# Altium integrated library TI Power Management Switching Regulator Charge Pump (Inductorless).IntLib: 239 symbols (part 12 of 14)
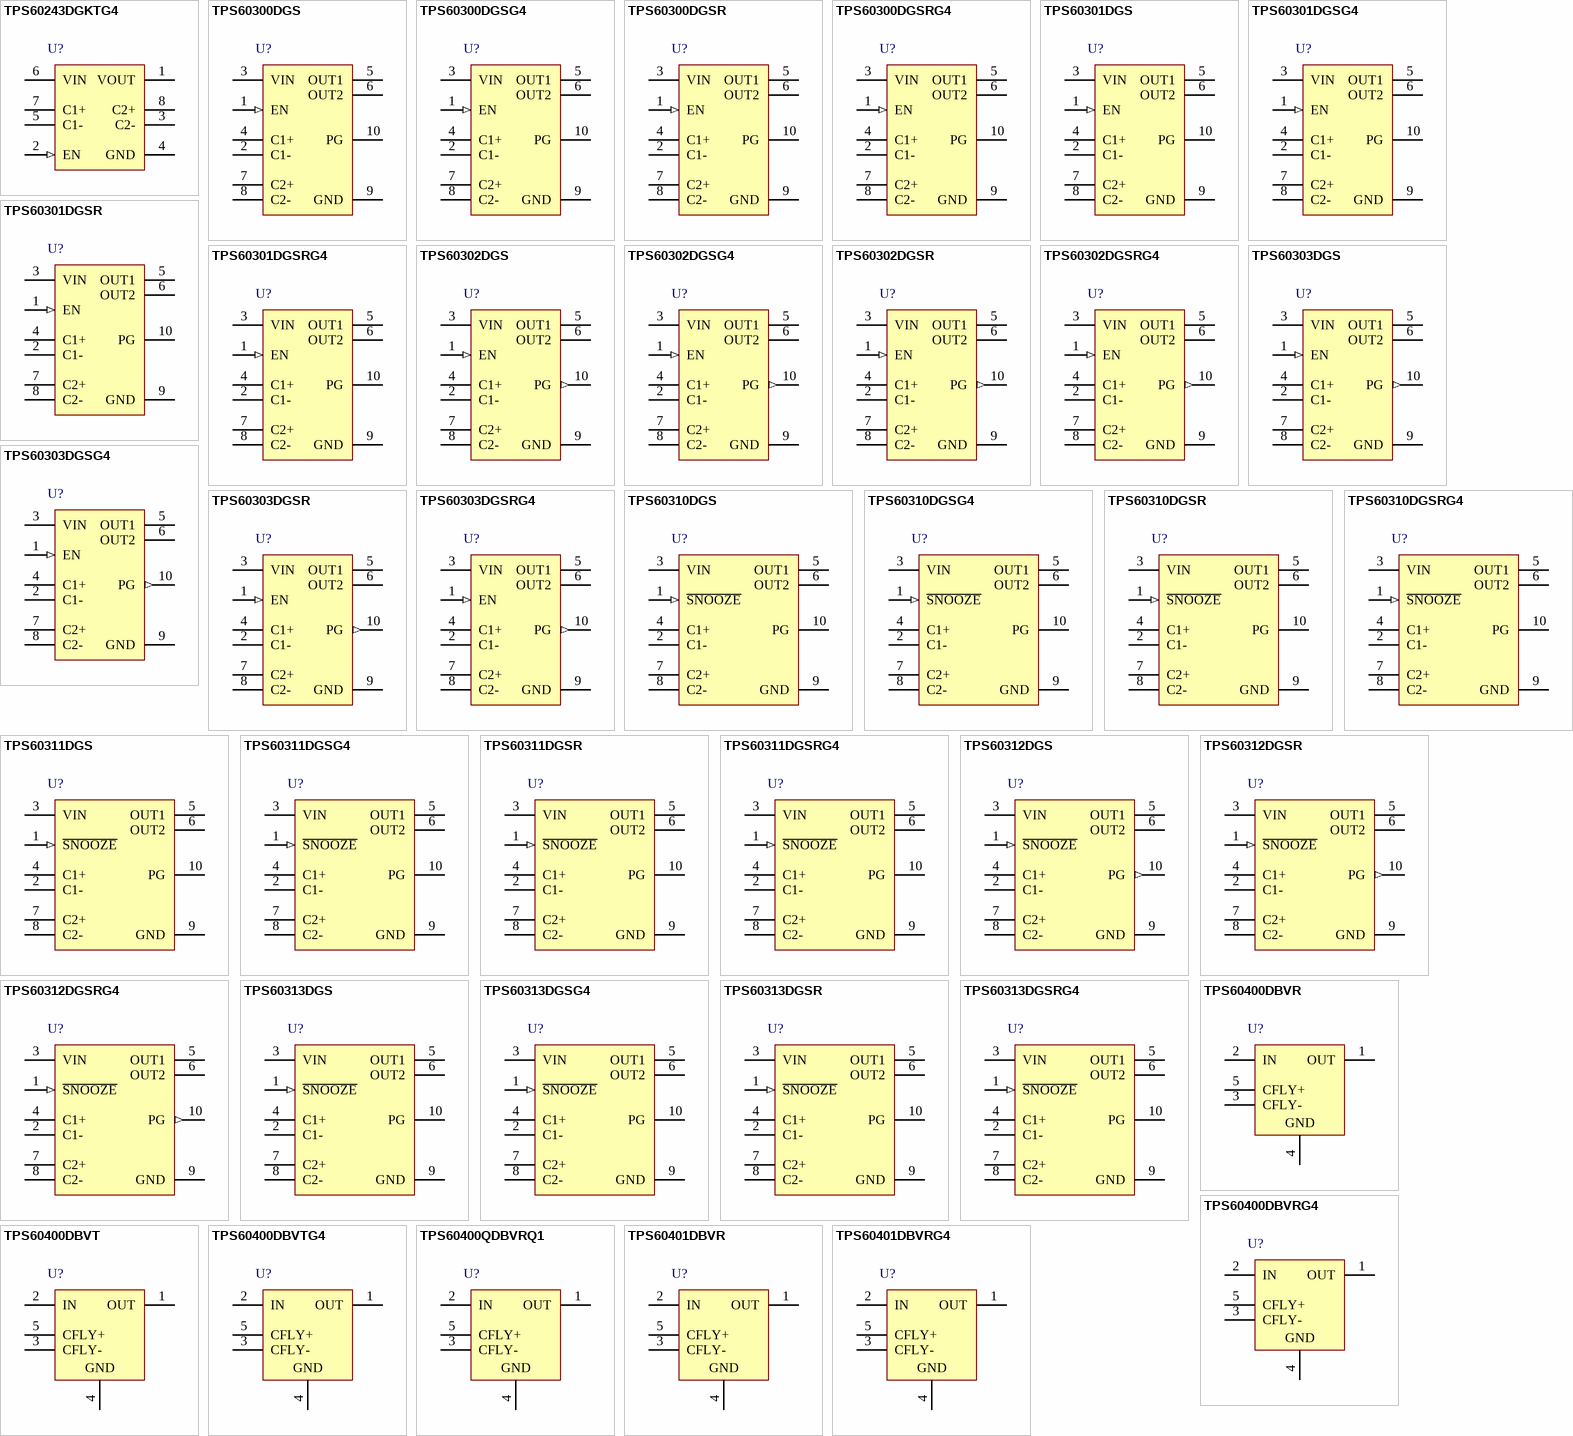
[diagram p18: symbols TPS60243DGKTG4 to TPS60401DBVRG4]

## TPS60311DGSG4
designator U?
3 V, Boost Charge Pump, 20 mA, 0.9 to 1.8 V Input, -40 to 125 degC, 10-pin SOP (DGS10), Green (RoHS & no Sb/Br); Manufacturer: Texas Instruments; PartNumber: TPS60311DGSG4; Efficiency(Typ)(%): 85; Iout(Max)(A): 0.02; Iq(Typ)(mA): 0.035; Preset Vout(V): 3; Switching Frequency(Max)(kHz): 900; Vin(Max)(V): 1.8; Vin(Min)(V): 0.9; Vout(Max)(V): 3.12; Vout(Min)(V): 2.88; DatasheetVersion: SLVS362A; PackageVersion: 4073225-6/I; PackageReference: DGS10; PackageDescription: 10-Pin Plastic Small Outline, Body 3.00 x 3.00 mm, Pitch 0.50 mm; Supplier 1: Digi-Key; Supplier Part Number 1: TPS60311DGSG4-ND; Supplier 2: Mouser; Supplier Part Number 2: 595-TPS60311DGSG4; Eco-Plan: Green (RoHS & no Sb/Br); Topology: Boost; Mounting Technology: Surface Mount; Code_JEDEC: MO-153; ComponentLink1Description: Manufacturer URL; ComponentLink1URL: http://www.ti.com/; ComponentLink2Description: Datasheet; ComponentLink2URL: http://www.ti.com/general/docs/lit/getliterature.tsp?genericPartNumber=TPS60311&fileType=pdf; ComponentLink3Description: Package Specification; ComponentLink3URL: http://www.ti.com/litv/pdf/mpds373
footprint TI-DGS10_N (SOP, 10-Leads, Body 3x3mm, Pitch 0.5mm, IPC Medium Density)
footprint TI-DGS10_L (SOP, 10-Leads, Body 3x3mm, Pitch 0.5mm, IPC High Density)
footprint TI-DGS10_M (SOP, 10-Leads, Body 3x3mm, Pitch 0.5mm, IPC Low Density)
pins: 1 ~{SNOOZE} (in) "Snooze mode enable input - S\N\O\O\Z\E\ = Low enables the snooze mode at low output current. - S\N\O\O\Z\E\ = High disables the snooze mode.", 2 C1- "Negative terminal of the flying capacitor C1F", 3 VIN (power) "Supply input. Bypass VIN to GND with a = 1-µF capacitor", 4 C1+ "Positive terminal of the flying capacitor C1F", 5 OUT1 (power) "2 x VIN power output. Bypass OUT1 to GND with the output filter capacitor C(OUT1)", 6 OUT2 (power) "Regulated 3.3-V power output (TPS60310, TPS60312) or 3-V power output (TPS60311, TPS60313), respectively Bypass OUT2 to GND with the output filter capacitor C(OUT2)", 7 C2+ "Positive terminal of the flying capacitor C2F", 8 C2- "Negative terminal of the flying capacitor C2F", 9 GND (power) "GROUND", 10 PG (oc) "Power good detector output. As soon as the voltage on OUT2 reaches about 98% of its nominal value this pin goes high. Open drain output on TPS60310 and TPS60311. A pullup resistor should be connected between PG and OUT1 or (See Datasheet)"

## TPS60311DGSR
designator U?
3 V, Boost Charge Pump, 20 mA, 0.9 to 1.8 V Input, -40 to 125 degC, 10-pin SOP (DGS10), Green (RoHS & no Sb/Br); Manufacturer: Texas Instruments; PartNumber: TPS60311DGSR; Efficiency(Typ)(%): 85; Iout(Max)(A): 0.02; Iq(Typ)(mA): 0.035; Preset Vout(V): 3; Switching Frequency(Max)(kHz): 900; Vin(Max)(V): 1.8; Vin(Min)(V): 0.9; Vout(Max)(V): 3.12; Vout(Min)(V): 2.88; DatasheetVersion: SLVS362A; PackageVersion: 4073225-6/I; PackageReference: DGS10; PackageDescription: 10-Pin Plastic Small Outline, Body 3.00 x 3.00 mm, Pitch 0.50 mm; Supplier 1: Digi-Key; Supplier Part Number 1: 296-13415-2-ND; Supplier 2: Digi-Key; Supplier Part Number 2: 296-13415-1-ND; Supplier 3: Mouser; Supplier Part Number 3: 595-TPS60311DGSR; Eco-Plan: Green (RoHS & no Sb/Br); Topology: Boost; Mounting Technology: Surface Mount; Code_JEDEC: MO-153; ComponentLink1Description: Manufacturer URL; ComponentLink1URL: http://www.ti.com/; ComponentLink2Description: Datasheet; ComponentLink2URL: http://www.ti.com/general/docs/lit/getliterature.tsp?genericPartNumber=TPS60311&fileType=pdf; ComponentLink3Description: Package Specification; ComponentLink3URL: http://www.ti.com/litv/pdf/mpds373
footprint TI-DGS10_N (SOP, 10-Leads, Body 3x3mm, Pitch 0.5mm, IPC Medium Density)
footprint TI-DGS10_L (SOP, 10-Leads, Body 3x3mm, Pitch 0.5mm, IPC High Density)
footprint TI-DGS10_M (SOP, 10-Leads, Body 3x3mm, Pitch 0.5mm, IPC Low Density)
pins: 1 ~{SNOOZE} (in) "Snooze mode enable input - S\N\O\O\Z\E\ = Low enables the snooze mode at low output current. - S\N\O\O\Z\E\ = High disables the snooze mode.", 2 C1- "Negative terminal of the flying capacitor C1F", 3 VIN (power) "Supply input. Bypass VIN to GND with a = 1-µF capacitor", 4 C1+ "Positive terminal of the flying capacitor C1F", 5 OUT1 (power) "2 x VIN power output. Bypass OUT1 to GND with the output filter capacitor C(OUT1)", 6 OUT2 (power) "Regulated 3.3-V power output (TPS60310, TPS60312) or 3-V power output (TPS60311, TPS60313), respectively Bypass OUT2 to GND with the output filter capacitor C(OUT2)", 7 C2+ "Positive terminal of the flying capacitor C2F", 8 C2- "Negative terminal of the flying capacitor C2F", 9 GND (power) "GROUND", 10 PG (oc) "Power good detector output. As soon as the voltage on OUT2 reaches about 98% of its nominal value this pin goes high. Open drain output on TPS60310 and TPS60311. A pullup resistor should be connected between PG and OUT1 or (See Datasheet)"

## TPS60311DGSRG4
designator U?
3 V, Boost Charge Pump, 20 mA, 0.9 to 1.8 V Input, -40 to 125 degC, 10-pin SOP (DGS10), Green (RoHS & no Sb/Br); Manufacturer: Texas Instruments; PartNumber: TPS60311DGSRG4; Efficiency(Typ)(%): 85; Iout(Max)(A): 0.02; Iq(Typ)(mA): 0.035; Preset Vout(V): 3; Switching Frequency(Max)(kHz): 900; Vin(Max)(V): 1.8; Vin(Min)(V): 0.9; Vout(Max)(V): 3.12; Vout(Min)(V): 2.88; DatasheetVersion: SLVS362A; PackageVersion: 4073225-6/I; PackageReference: DGS10; PackageDescription: 10-Pin Plastic Small Outline, Body 3.00 x 3.00 mm, Pitch 0.50 mm; Supplier 1: Digi-Key; Supplier Part Number 1: TPS60311DGSRG4-ND; Supplier 2: Mouser; Supplier Part Number 2: 595-TPS60311DGSRG4; Eco-Plan: Green (RoHS & no Sb/Br); Topology: Boost; Mounting Technology: Surface Mount; Code_JEDEC: MO-153; ComponentLink1Description: Manufacturer URL; ComponentLink1URL: http://www.ti.com/; ComponentLink2Description: Datasheet; ComponentLink2URL: http://www.ti.com/general/docs/lit/getliterature.tsp?genericPartNumber=TPS60311&fileType=pdf; ComponentLink3Description: Package Specification; ComponentLink3URL: http://www.ti.com/litv/pdf/mpds373
footprint TI-DGS10_N (SOP, 10-Leads, Body 3x3mm, Pitch 0.5mm, IPC Medium Density)
footprint TI-DGS10_L (SOP, 10-Leads, Body 3x3mm, Pitch 0.5mm, IPC High Density)
footprint TI-DGS10_M (SOP, 10-Leads, Body 3x3mm, Pitch 0.5mm, IPC Low Density)
pins: 1 ~{SNOOZE} (in) "Snooze mode enable input - S\N\O\O\Z\E\ = Low enables the snooze mode at low output current. - S\N\O\O\Z\E\ = High disables the snooze mode.", 2 C1- "Negative terminal of the flying capacitor C1F", 3 VIN (power) "Supply input. Bypass VIN to GND with a = 1-µF capacitor", 4 C1+ "Positive terminal of the flying capacitor C1F", 5 OUT1 (power) "2 x VIN power output. Bypass OUT1 to GND with the output filter capacitor C(OUT1)", 6 OUT2 (power) "Regulated 3.3-V power output (TPS60310, TPS60312) or 3-V power output (TPS60311, TPS60313), respectively Bypass OUT2 to GND with the output filter capacitor C(OUT2)", 7 C2+ "Positive terminal of the flying capacitor C2F", 8 C2- "Negative terminal of the flying capacitor C2F", 9 GND (power) "GROUND", 10 PG (oc) "Power good detector output. As soon as the voltage on OUT2 reaches about 98% of its nominal value this pin goes high. Open drain output on TPS60310 and TPS60311. A pullup resistor should be connected between PG and OUT1 or (See Datasheet)"

## TPS60312DGS
designator U?
3.3 V, Boost Charge Pump, 20 mA, 0.9 to 1.8 V Input, -40 to 125 degC, 10-pin SOP (DGS10), Green (RoHS & no Sb/Br); Manufacturer: Texas Instruments; PartNumber: TPS60312DGS; Efficiency(Typ)(%): 85; Iout(Max)(A): 0.02; Iq(Typ)(mA): 0.035; Preset Vout(V): 3.3; Switching Frequency(Max)(kHz): 900; Vin(Max)(V): 1.8; Vin(Min)(V): 0.9; Vout(Max)(V): 3.43; Vout(Min)(V): 3.17; DatasheetVersion: SLVS362A; PackageVersion: 4073225-6/I; PackageReference: DGS10; PackageDescription: 10-Pin Plastic Small Outline, Body 3.00 x 3.00 mm, Pitch 0.50 mm; Supplier 1: Digi-Key; Supplier Part Number 1: TPS60312DGS-ND; Supplier 2: Mouser; Supplier Part Number 2: 595-TPS60312DGS; Eco-Plan: Green (RoHS & no Sb/Br); Topology: Boost; Mounting Technology: Surface Mount; Code_JEDEC: MO-153; ComponentLink1Description: Manufacturer URL; ComponentLink1URL: http://www.ti.com/; ComponentLink2Description: Datasheet; ComponentLink2URL: http://www.ti.com/general/docs/lit/getliterature.tsp?genericPartNumber=TPS60312&fileType=pdf; ComponentLink3Description: Package Specification; ComponentLink3URL: http://www.ti.com/litv/pdf/mpds373
footprint TI-DGS10_N (SOP, 10-Leads, Body 3x3mm, Pitch 0.5mm, IPC Medium Density)
footprint TI-DGS10_L (SOP, 10-Leads, Body 3x3mm, Pitch 0.5mm, IPC High Density)
footprint TI-DGS10_M (SOP, 10-Leads, Body 3x3mm, Pitch 0.5mm, IPC Low Density)
pins: 1 ~{SNOOZE} (in) "Snooze mode enable input - SNOOZE = Low enables the snooze mode at low output current. - SNOOZE = High disables the snooze mode.", 2 C1- "Negative terminal of the flying capacitor C1F", 3 VIN (power) "Supply input. Bypass VIN to GND with a >= 1-µF capacitor.", 4 C1+ "Positive terminal of the flying capacitor C1F", 5 OUT1 (power) "2 x VIN power output. Bypass OUT1 to GND with the output filter capacitor C(OUT1)", 6 OUT2 (power) "Regulated 3.3-V power output (TPS60310, TPS60312) or 3-V power output (TPS60311, TPS60313), respectively Bypass OUT2 to GND with the output filter capacitor C(OUT2)", 7 C2+ "Positive terminal of the flying capacitor C2F", 8 C2- "Negative terminal of the flying capacitor C2F", 9 GND (power) "GROUND", 10 PG (out) "Power good detector output. As soon as the voltage on OUT2 reaches about 98% of its nominal value this pin goes high. Open drain output on TPS60310 and TPS60311. A pullup resistor should be connected between PG and OUT1 or (See Datasheet)"

## TPS60312DGSR
designator U?
3.3 V, Boost Charge Pump, 20 mA, 0.9 to 1.8 V Input, -40 to 125 degC, 10-pin SOP (DGS10), Green (RoHS & no Sb/Br); Manufacturer: Texas Instruments; PartNumber: TPS60312DGSR; Efficiency(Typ)(%): 85; Iout(Max)(A): 0.02; Iq(Typ)(mA): 0.035; Preset Vout(V): 3.3; Switching Frequency(Max)(kHz): 900; Vin(Max)(V): 1.8; Vin(Min)(V): 0.9; Vout(Max)(V): 3.43; Vout(Min)(V): 3.17; DatasheetVersion: SLVS362A; PackageVersion: 4073225-6/I; PackageReference: DGS10; PackageDescription: 10-Pin Plastic Small Outline, Body 3.00 x 3.00 mm, Pitch 0.50 mm; Supplier 1: Digi-Key; Supplier Part Number 1: 296-13416-2-ND; Supplier 2: Digi-Key; Supplier Part Number 2: 296-13416-1-ND; Supplier 3: Digi-Key; Supplier Part Number 3: 296-13416-6-ND; Supplier 4: Mouser; Supplier Part Number 4: 595-TPS60312DGSR; Eco-Plan: Green (RoHS & no Sb/Br); Topology: Boost; Mounting Technology: Surface Mount; Code_JEDEC: MO-153; ComponentLink1Description: Manufacturer URL; ComponentLink1URL: http://www.ti.com/; ComponentLink2Description: Datasheet; ComponentLink2URL: http://www.ti.com/general/docs/lit/getliterature.tsp?genericPartNumber=TPS60312&fileType=pdf; ComponentLink3Description: Package Specification; ComponentLink3URL: http://www.ti.com/litv/pdf/mpds373
footprint TI-DGS10_N (SOP, 10-Leads, Body 3x3mm, Pitch 0.5mm, IPC Medium Density)
footprint TI-DGS10_L (SOP, 10-Leads, Body 3x3mm, Pitch 0.5mm, IPC High Density)
footprint TI-DGS10_M (SOP, 10-Leads, Body 3x3mm, Pitch 0.5mm, IPC Low Density)
pins: 1 ~{SNOOZE} (in) "Snooze mode enable input - SNOOZE = Low enables the snooze mode at low output current. - SNOOZE = High disables the snooze mode.", 2 C1- "Negative terminal of the flying capacitor C1F", 3 VIN (power) "Supply input. Bypass VIN to GND with a >= 1-µF capacitor.", 4 C1+ "Positive terminal of the flying capacitor C1F", 5 OUT1 (power) "2 x VIN power output. Bypass OUT1 to GND with the output filter capacitor C(OUT1)", 6 OUT2 (power) "Regulated 3.3-V power output (TPS60310, TPS60312) or 3-V power output (TPS60311, TPS60313), respectively Bypass OUT2 to GND with the output filter capacitor C(OUT2)", 7 C2+ "Positive terminal of the flying capacitor C2F", 8 C2- "Negative terminal of the flying capacitor C2F", 9 GND (power) "GROUND", 10 PG (out) "Power good detector output. As soon as the voltage on OUT2 reaches about 98% of its nominal value this pin goes high. Open drain output on TPS60310 and TPS60311. A pullup resistor should be connected between PG and OUT1 or (See Datasheet)"

## TPS60312DGSRG4
designator U?
3.3 V, Boost Charge Pump, 20 mA, 0.9 to 1.8 V Input, -40 to 125 degC, 10-pin SOP (DGS10), Green (RoHS & no Sb/Br); Manufacturer: Texas Instruments; PartNumber: TPS60312DGSRG4; Efficiency(Typ)(%): 85; Iout(Max)(A): 0.02; Iq(Typ)(mA): 0.035; Preset Vout(V): 3.3; Switching Frequency(Max)(kHz): 900; Vin(Max)(V): 1.8; Vin(Min)(V): 0.9; Vout(Max)(V): 3.43; Vout(Min)(V): 3.17; DatasheetVersion: SLVS362A; PackageVersion: 4073225-6/I; PackageReference: DGS10; PackageDescription: 10-Pin Plastic Small Outline, Body 3.00 x 3.00 mm, Pitch 0.50 mm; Supplier 1: Digi-Key; Supplier Part Number 1: TPS60312DGSRG4-ND; Supplier 2: Newark; Supplier Part Number 2: 54K1705; Supplier 3: Mouser; Supplier Part Number 3: 595-TPS60312DGSRG4; Eco-Plan: Green (RoHS & no Sb/Br); Topology: Boost; Mounting Technology: Surface Mount; Code_JEDEC: MO-153; ComponentLink1Description: Manufacturer URL; ComponentLink1URL: http://www.ti.com/; ComponentLink2Description: Datasheet; ComponentLink2URL: http://www.ti.com/general/docs/lit/getliterature.tsp?genericPartNumber=TPS60312&fileType=pdf; ComponentLink3Description: Package Specification; ComponentLink3URL: http://www.ti.com/litv/pdf/mpds373
footprint TI-DGS10_N (SOP, 10-Leads, Body 3x3mm, Pitch 0.5mm, IPC Medium Density)
footprint TI-DGS10_L (SOP, 10-Leads, Body 3x3mm, Pitch 0.5mm, IPC High Density)
footprint TI-DGS10_M (SOP, 10-Leads, Body 3x3mm, Pitch 0.5mm, IPC Low Density)
pins: 1 ~{SNOOZE} (in) "Snooze mode enable input - SNOOZE = Low enables the snooze mode at low output current. - SNOOZE = High disables the snooze mode.", 2 C1- "Negative terminal of the flying capacitor C1F", 3 VIN (power) "Supply input. Bypass VIN to GND with a >= 1-µF capacitor.", 4 C1+ "Positive terminal of the flying capacitor C1F", 5 OUT1 (power) "2 x VIN power output. Bypass OUT1 to GND with the output filter capacitor C(OUT1)", 6 OUT2 (power) "Regulated 3.3-V power output (TPS60310, TPS60312) or 3-V power output (TPS60311, TPS60313), respectively Bypass OUT2 to GND with the output filter capacitor C(OUT2)", 7 C2+ "Positive terminal of the flying capacitor C2F", 8 C2- "Negative terminal of the flying capacitor C2F", 9 GND (power) "GROUND", 10 PG (out) "Power good detector output. As soon as the voltage on OUT2 reaches about 98% of its nominal value this pin goes high. Open drain output on TPS60310 and TPS60311. A pullup resistor should be connected between PG and OUT1 or (See Datasheet)"

## TPS60313DGS
designator U?
3 V, Boost Charge Pump, 20 mA, 0.9 to 1.8 V Input, -40 to 125 degC, 10-pin SOP (DGS10), Green (RoHS & no Sb/Br); Manufacturer: Texas Instruments; PartNumber: TPS60313DGS; Efficiency(Typ)(%): 85; Iout(Max)(A): 0.02; Iq(Typ)(mA): 0.035; Preset Vout(V): 3; Switching Frequency(Max)(kHz): 900; Vin(Max)(V): 1.8; Vin(Min)(V): 0.9; Vout(Max)(V): 3.12; Vout(Min)(V): 2.88; DatasheetVersion: SLVS362A; PackageVersion: 4073225-6/I; PackageReference: DGS10; PackageDescription: 10-Pin Plastic Small Outline, Body 3.00 x 3.00 mm, Pitch 0.50 mm; Supplier 1: Digi-Key; Supplier Part Number 1: 296-34626-5-ND; Supplier 2: Newark; Supplier Part Number 2: 77C0623; Supplier 3: Mouser; Supplier Part Number 3: 595-TPS60313DGS; Eco-Plan: Green (RoHS & no Sb/Br); Topology: Boost; Mounting Technology: Surface Mount; Code_JEDEC: MO-153; ComponentLink1Description: Manufacturer URL; ComponentLink1URL: http://www.ti.com/; ComponentLink2Description: Datasheet; ComponentLink2URL: http://www.ti.com/general/docs/lit/getliterature.tsp?genericPartNumber=TPS60313&fileType=pdf; ComponentLink3Description: Package Specification; ComponentLink3URL: http://www.ti.com/litv/pdf/mpds373
footprint TI-DGS10_N (SOP, 10-Leads, Body 3x3mm, Pitch 0.5mm, IPC Medium Density)
footprint TI-DGS10_L (SOP, 10-Leads, Body 3x3mm, Pitch 0.5mm, IPC High Density)
footprint TI-DGS10_M (SOP, 10-Leads, Body 3x3mm, Pitch 0.5mm, IPC Low Density)
pins: 1 ~{SNOOZE} (in) "Snooze mode enable input - S\N\O\O\Z\E\ = Low enables the snooze mode at low output current. - S\N\O\O\Z\E\ = High disables the snooze mode.", 2 C1- "Negative terminal of the flying capacitor C1F", 3 VIN (power) "Supply input. Bypass VIN to GND with a = 1-µF capacitor", 4 C1+ "Positive terminal of the flying capacitor C1F", 5 OUT1 (power) "2 x VIN power output. Bypass OUT1 to GND with the output filter capacitor C(OUT1)", 6 OUT2 (power) "Regulated 3.3-V power output (TPS60310, TPS60312) or 3-V power output (TPS60311, TPS60313), respectively Bypass OUT2 to GND with the output filter capacitor C(OUT2)", 7 C2+ "Positive terminal of the flying capacitor C2F", 8 C2- "Negative terminal of the flying capacitor C2F", 9 GND (power) "GROUND", 10 PG (oc) "Power good detector output. As soon as the voltage on OUT2 reaches about 98% of its nominal value this pin goes high. Open drain output on TPS60310 and TPS60311. A pullup resistor should be connected between PG and OUT1 or (See Datasheet)"

## TPS60313DGSG4
designator U?
3 V, Boost Charge Pump, 20 mA, 0.9 to 1.8 V Input, -40 to 125 degC, 10-pin SOP (DGS10), Green (RoHS & no Sb/Br); Manufacturer: Texas Instruments; PartNumber: TPS60313DGSG4; Efficiency(Typ)(%): 85; Iout(Max)(A): 0.02; Iq(Typ)(mA): 0.035; Preset Vout(V): 3; Switching Frequency(Max)(kHz): 900; Vin(Max)(V): 1.8; Vin(Min)(V): 0.9; Vout(Max)(V): 3.12; Vout(Min)(V): 2.88; DatasheetVersion: SLVS362A; PackageVersion: 4073225-6/I; PackageReference: DGS10; PackageDescription: 10-Pin Plastic Small Outline, Body 3.00 x 3.00 mm, Pitch 0.50 mm; Supplier 1: Digi-Key; Supplier Part Number 1: TPS60313DGSG4-ND; Supplier 2: Newark; Supplier Part Number 2: 65M6334; Supplier 3: Mouser; Supplier Part Number 3: 595-TPS60313DGSG4; Eco-Plan: Green (RoHS & no Sb/Br); Topology: Boost; Mounting Technology: Surface Mount; Code_JEDEC: MO-153; ComponentLink1Description: Manufacturer URL; ComponentLink1URL: http://www.ti.com/; ComponentLink2Description: Datasheet; ComponentLink2URL: http://www.ti.com/general/docs/lit/getliterature.tsp?genericPartNumber=TPS60313&fileType=pdf; ComponentLink3Description: Package Specification; ComponentLink3URL: http://www.ti.com/litv/pdf/mpds373
footprint TI-DGS10_N (SOP, 10-Leads, Body 3x3mm, Pitch 0.5mm, IPC Medium Density)
footprint TI-DGS10_L (SOP, 10-Leads, Body 3x3mm, Pitch 0.5mm, IPC High Density)
footprint TI-DGS10_M (SOP, 10-Leads, Body 3x3mm, Pitch 0.5mm, IPC Low Density)
pins: 1 ~{SNOOZE} (in) "Snooze mode enable input - S\N\O\O\Z\E\ = Low enables the snooze mode at low output current. - S\N\O\O\Z\E\ = High disables the snooze mode.", 2 C1- "Negative terminal of the flying capacitor C1F", 3 VIN (power) "Supply input. Bypass VIN to GND with a = 1-µF capacitor", 4 C1+ "Positive terminal of the flying capacitor C1F", 5 OUT1 (power) "2 x VIN power output. Bypass OUT1 to GND with the output filter capacitor C(OUT1)", 6 OUT2 (power) "Regulated 3.3-V power output (TPS60310, TPS60312) or 3-V power output (TPS60311, TPS60313), respectively Bypass OUT2 to GND with the output filter capacitor C(OUT2)", 7 C2+ "Positive terminal of the flying capacitor C2F", 8 C2- "Negative terminal of the flying capacitor C2F", 9 GND (power) "GROUND", 10 PG (oc) "Power good detector output. As soon as the voltage on OUT2 reaches about 98% of its nominal value this pin goes high. Open drain output on TPS60310 and TPS60311. A pullup resistor should be connected between PG and OUT1 or (See Datasheet)"

## TPS60313DGSR
designator U?
3 V, Boost Charge Pump, 20 mA, 0.9 to 1.8 V Input, -40 to 125 degC, 10-pin SOP (DGS10), Green (RoHS & no Sb/Br); Manufacturer: Texas Instruments; PartNumber: TPS60313DGSR; Efficiency(Typ)(%): 85; Iout(Max)(A): 0.02; Iq(Typ)(mA): 0.035; Preset Vout(V): 3; Switching Frequency(Max)(kHz): 900; Vin(Max)(V): 1.8; Vin(Min)(V): 0.9; Vout(Max)(V): 3.12; Vout(Min)(V): 2.88; DatasheetVersion: SLVS362A; PackageVersion: 4073225-6/I; PackageReference: DGS10; PackageDescription: 10-Pin Plastic Small Outline, Body 3.00 x 3.00 mm, Pitch 0.50 mm; Supplier 1: Digi-Key; Supplier Part Number 1: 296-13417-2-ND; Supplier 2: Digi-Key; Supplier Part Number 2: 296-13417-1-ND; Supplier 3: Digi-Key; Supplier Part Number 3: 296-13417-6-ND; Supplier 4: Newark; Supplier Part Number 4: 77C0624; Supplier 5: Mouser; Supplier Part Number 5: 595-TPS60313DGSR; Eco-Plan: Green (RoHS & no Sb/Br); Topology: Boost; Mounting Technology: Surface Mount; Code_JEDEC: MO-153; ComponentLink1Description: Manufacturer URL; ComponentLink1URL: http://www.ti.com/; ComponentLink2Description: Datasheet; ComponentLink2URL: http://www.ti.com/general/docs/lit/getliterature.tsp?genericPartNumber=TPS60313&fileType=pdf; ComponentLink3Description: Package Specification; ComponentLink3URL: http://www.ti.com/litv/pdf/mpds373
footprint TI-DGS10_N (SOP, 10-Leads, Body 3x3mm, Pitch 0.5mm, IPC Medium Density)
footprint TI-DGS10_L (SOP, 10-Leads, Body 3x3mm, Pitch 0.5mm, IPC High Density)
footprint TI-DGS10_M (SOP, 10-Leads, Body 3x3mm, Pitch 0.5mm, IPC Low Density)
pins: 1 ~{SNOOZE} (in) "Snooze mode enable input - S\N\O\O\Z\E\ = Low enables the snooze mode at low output current. - S\N\O\O\Z\E\ = High disables the snooze mode.", 2 C1- "Negative terminal of the flying capacitor C1F", 3 VIN (power) "Supply input. Bypass VIN to GND with a = 1-µF capacitor", 4 C1+ "Positive terminal of the flying capacitor C1F", 5 OUT1 (power) "2 x VIN power output. Bypass OUT1 to GND with the output filter capacitor C(OUT1)", 6 OUT2 (power) "Regulated 3.3-V power output (TPS60310, TPS60312) or 3-V power output (TPS60311, TPS60313), respectively Bypass OUT2 to GND with the output filter capacitor C(OUT2)", 7 C2+ "Positive terminal of the flying capacitor C2F", 8 C2- "Negative terminal of the flying capacitor C2F", 9 GND (power) "GROUND", 10 PG (oc) "Power good detector output. As soon as the voltage on OUT2 reaches about 98% of its nominal value this pin goes high. Open drain output on TPS60310 and TPS60311. A pullup resistor should be connected between PG and OUT1 or (See Datasheet)"

## TPS60313DGSRG4
designator U?
3 V, Boost Charge Pump, 20 mA, 0.9 to 1.8 V Input, -40 to 85 degC, 10-pin SOP (DGS10), Green (RoHS & no Sb/Br); Manufacturer: Texas Instruments; PartNumber: TPS60313DGSRG4; Efficiency(Typ)(%): 85; Iout(Max)(A): 0.02; Iq(Typ)(mA): 0.035; Preset Vout(V): 3; Switching Frequency(Max)(kHz): 900; Vin(Max)(V): 1.8; Vin(Min)(V): 0.9; Vout(Max)(V): 3.12; Vout(Min)(V): 2.88; DatasheetVersion: SLVS362A; PackageVersion: 4073225-6/I; PackageReference: DGS10; PackageDescription: 10-Pin Plastic Small Outline, Body 3.00 x 3.00 mm, Pitch 0.50 mm; Supplier 1: Digi-Key; Supplier Part Number 1: TPS60313DGSRG4-ND; Supplier 2: Mouser; Supplier Part Number 2: 595-TPS60313DGSRG4; Eco-Plan: Green (RoHS & no Sb/Br); Topology: Boost; Mounting Technology: Surface Mount; Code_JEDEC: MO-153; ComponentLink1Description: Manufacturer URL; ComponentLink1URL: http://www.ti.com/; ComponentLink2Description: Datasheet; ComponentLink2URL: http://www.ti.com/general/docs/lit/getliterature.tsp?genericPartNumber=TPS60313&fileType=pdf; ComponentLink3Description: Package Specification; ComponentLink3URL: http://www.ti.com/litv/pdf/mpds373
footprint TI-DGS10_N (SOP, 10-Leads, Body 3x3mm, Pitch 0.5mm, IPC Medium Density)
footprint TI-DGS10_L (SOP, 10-Leads, Body 3x3mm, Pitch 0.5mm, IPC High Density)
footprint TI-DGS10_M (SOP, 10-Leads, Body 3x3mm, Pitch 0.5mm, IPC Low Density)
pins: 1 ~{SNOOZE} (in) "Snooze mode enable input - S\N\O\O\Z\E\ = Low enables the snooze mode at low output current. - S\N\O\O\Z\E\ = High disables the snooze mode.", 2 C1- "Negative terminal of the flying capacitor C1F", 3 VIN (power) "Supply input. Bypass VIN to GND with a = 1-µF capacitor", 4 C1+ "Positive terminal of the flying capacitor C1F", 5 OUT1 (power) "2 x VIN power output. Bypass OUT1 to GND with the output filter capacitor C(OUT1)", 6 OUT2 (power) "Regulated 3.3-V power output (TPS60310, TPS60312) or 3-V power output (TPS60311, TPS60313), respectively Bypass OUT2 to GND with the output filter capacitor C(OUT2)", 7 C2+ "Positive terminal of the flying capacitor C2F", 8 C2- "Negative terminal of the flying capacitor C2F", 9 GND (power) "GROUND", 10 PG (oc) "Power good detector output. As soon as the voltage on OUT2 reaches about 98% of its nominal value this pin goes high. Open drain output on TPS60310 and TPS60311. A pullup resistor should be connected between PG and OUT1 or (See Datasheet)"

## TPS60400DBVR
designator U?
-1.8 to -5.25 V, Inverting Charge Pump, 60 mA, 1.8 to 5.25 V Input with 2-Cell Alkaline / Nixx Input, -40 to 85 degC, 5-pin SOT23 (DBV5), Green (RoHS & no Sb/Br); Manufacturer: Texas Instruments; PartNumber: TPS60400DBVR; 2-Cell Alkaline/Nixx Input: TRUE; Efficiency(Typ)(%): 99; Iout(Max)(A): 0.06; Iq(Typ)(mA): 0.125; Switching Frequency(Max)(kHz): 450; Topology: Inverting Buck/Boost; Vin(Max)(V): 5.25; Vin(Min)(V): 1.8; Vout(Min)(V): -1.6; DatasheetVersion: SLVS324A; PackageVersion: 4073253-4/K; PackageReference: DBV5; PackageDescription: 5-Pin Plastic Small Outline, Body 1.60 × 2.90 mm, Pitch 0.95 mm; Supplier 1: Digi-Key; Supplier Part Number 1: 296-27004-2-ND; Supplier 2: Digi-Key; Supplier Part Number 2: 296-27004-1-ND; Supplier 3: Digi-Key; Supplier Part Number 3: 296-27004-6-ND; Supplier 4: Newark; Supplier Part Number 4: 77C0625; Supplier 5: Mouser; Supplier Part Number 5: 595-TPS60400DBVR; Eco-Plan: Green (RoHS & no Sb/Br); Vout(Max)(V): -5.25; Mounting Technology: Surface Mount; Code_JEDEC: MO-178; ComponentLink1Description: Manufacturer URL; ComponentLink1URL: http://www.ti.com/; ComponentLink2Description: Datasheet; ComponentLink2URL: http://www.ti.com/general/docs/lit/getliterature.tsp?genericPartNumber=TPS60400&fileType=pdf; ComponentLink3Description: Package Specification; ComponentLink3URL: http://www.ti.com/litv/pdf/mpds018i
footprint TI-DBV5_N (SOT23, 5-Leads, Body 2.9x1.6mm, Pitch 0.95mm, IPC Medium Density)
footprint TI-DBV5_L (SOT23, 5-Leads, Body 2.9x1.6mm, Pitch 0.95mm, IPC High Density)
footprint TI-DBV5_M (SOT23, 5-Leads, Body 2.9x1.6mm, Pitch 0.95mm, IPC Low Density)
pins: 1 OUT (power) "Power output with VO = -VI Bypass OUT to GND with the output filter capacitor CO.", 2 IN (power) "Supply input. Connect to an input supply in the 1.6-V to 5.5-V range. Bypass IN to GND with a capacitor that has the same value as the flying capacitor.", 3 CFLY- "Negative terminal of the flying capacitor C(fly)", 4 GND (power) "Ground", 5 CFLY+ "Positive terminal of the flying capacitor C(fly)"

## TPS60400DBVRG4
designator U?
-1.8 to -5.25 V, Inverting Charge Pump, 60 mA, 1.8 to 5.25 V Input with 2-Cell Alkaline / Nixx Input, -40 to 85 degC, 5-pin SOT23 (DBV5), Green (RoHS & no Sb/Br); Manufacturer: Texas Instruments; PartNumber: TPS60400DBVRG4; 2-Cell Alkaline/Nixx Input: TRUE; Efficiency(Typ)(%): 99; Iout(Max)(A): 0.06; Iq(Typ)(mA): 0.125; Switching Frequency(Max)(kHz): 450; Topology: Inverting Buck/Boost; Vin(Max)(V): 5.25; Vin(Min)(V): 1.8; Vout(Min)(V): -1.6; DatasheetVersion: SLVS324A; PackageVersion: 4073253-4/K; PackageReference: DBV5; PackageDescription: 5-Pin Plastic Small Outline, Body 1.60 × 2.90 mm, Pitch 0.95 mm; Supplier 1: Digi-Key; Supplier Part Number 1: TPS60400DBVRG4-ND; Supplier 2: Newark; Supplier Part Number 2: 71J8173; Supplier 3: Mouser; Supplier Part Number 3: 595-TPS60400DBVRG4; Eco-Plan: Green (RoHS & no Sb/Br); Vout(Max)(V): -5.25; Mounting Technology: Surface Mount; Code_JEDEC: MO-178; ComponentLink1Description: Manufacturer URL; ComponentLink1URL: http://www.ti.com/; ComponentLink2Description: Datasheet; ComponentLink2URL: http://www.ti.com/general/docs/lit/getliterature.tsp?genericPartNumber=TPS60400&fileType=pdf; ComponentLink3Description: Package Specification; ComponentLink3URL: http://www.ti.com/litv/pdf/mpds018i
footprint TI-DBV5_N (SOT23, 5-Leads, Body 2.9x1.6mm, Pitch 0.95mm, IPC Medium Density)
footprint TI-DBV5_L (SOT23, 5-Leads, Body 2.9x1.6mm, Pitch 0.95mm, IPC High Density)
footprint TI-DBV5_M (SOT23, 5-Leads, Body 2.9x1.6mm, Pitch 0.95mm, IPC Low Density)
pins: 1 OUT (power) "Power output with VO = -VI Bypass OUT to GND with the output filter capacitor CO.", 2 IN (power) "Supply input. Connect to an input supply in the 1.6-V to 5.5-V range. Bypass IN to GND with a capacitor that has the same value as the flying capacitor.", 3 CFLY- "Negative terminal of the flying capacitor C(fly)", 4 GND (power) "Ground", 5 CFLY+ "Positive terminal of the flying capacitor C(fly)"

## TPS60400DBVT
designator U?
-1.8 to -5.25 V, Inverting Charge Pump, 60 mA, 1.8 to 5.25 V Input with 2-Cell Alkaline / Nixx Input, -40 to 85 degC, 5-pin SOT23 (DBV5), Green (RoHS & no Sb/Br); Manufacturer: Texas Instruments; PartNumber: TPS60400DBVT; 2-Cell Alkaline/Nixx Input: TRUE; Efficiency(Typ)(%): 99; Iout(Max)(A): 0.06; Iq(Typ)(mA): 0.125; Switching Frequency(Max)(kHz): 450; Topology: Inverting Buck/Boost; Vin(Max)(V): 5.25; Vin(Min)(V): 1.8; Vout(Min)(V): -1.6; DatasheetVersion: SLVS324A; PackageVersion: 4073253-4/K; PackageReference: DBV5; PackageDescription: 5-Pin Plastic Small Outline, Body 1.60 × 2.90 mm, Pitch 0.95 mm; Supplier 1: Digi-Key; Supplier Part Number 1: 296-12013-2-ND; Supplier 2: Digi-Key; Supplier Part Number 2: 296-12013-1-ND; Supplier 3: Digi-Key; Supplier Part Number 3: 296-12013-6-ND; Supplier 4: Farnell; Supplier Part Number 4: 8457751RL; Supplier 5: Farnell; Supplier Part Number 5: 8457751; Supplier 6: Newark; Supplier Part Number 6: 39C6049; Supplier 7: Mouser; Supplier Part Number 7: 595-TPS60400DBVT; Eco-Plan: Green (RoHS & no Sb/Br); Vout(Max)(V): -5.25; Mounting Technology: Surface Mount; Code_JEDEC: MO-178; ComponentLink1Description: Manufacturer URL; ComponentLink1URL: http://www.ti.com/; ComponentLink2Description: Datasheet; ComponentLink2URL: http://www.ti.com/general/docs/lit/getliterature.tsp?genericPartNumber=TPS60400&fileType=pdf; ComponentLink3Description: Package Specification; ComponentLink3URL: http://www.ti.com/litv/pdf/mpds018i
footprint TI-DBV5_N (SOT23, 5-Leads, Body 2.9x1.6mm, Pitch 0.95mm, IPC Medium Density)
footprint TI-DBV5_L (SOT23, 5-Leads, Body 2.9x1.6mm, Pitch 0.95mm, IPC High Density)
footprint TI-DBV5_M (SOT23, 5-Leads, Body 2.9x1.6mm, Pitch 0.95mm, IPC Low Density)
pins: 1 OUT (power) "Power output with VO = -VI Bypass OUT to GND with the output filter capacitor CO.", 2 IN (power) "Supply input. Connect to an input supply in the 1.6-V to 5.5-V range. Bypass IN to GND with a capacitor that has the same value as the flying capacitor.", 3 CFLY- "Negative terminal of the flying capacitor C(fly)", 4 GND (power) "Ground", 5 CFLY+ "Positive terminal of the flying capacitor C(fly)"

## TPS60400DBVTG4
designator U?
-1.8 to -5.25 V, Inverting Charge Pump, 60 mA, 1.8 to 5.25 V Input with 2-Cell Alkaline / Nixx Input, -40 to 85 degC, 5-pin SOT23 (DBV5), Green (RoHS & no Sb/Br); Manufacturer: Texas Instruments; PartNumber: TPS60400DBVTG4; 2-Cell Alkaline/Nixx Input: TRUE; Efficiency(Typ)(%): 99; Iout(Max)(A): 0.06; Iq(Typ)(mA): 0.125; Switching Frequency(Max)(kHz): 450; Topology: Inverting Buck/Boost; Vin(Max)(V): 5.25; Vin(Min)(V): 1.8; Vout(Min)(V): -1.6; DatasheetVersion: SLVS324A; PackageVersion: 4073253-4/K; PackageReference: DBV5; PackageDescription: 5-Pin Plastic Small Outline, Body 1.60 × 2.90 mm, Pitch 0.95 mm; Supplier 1: Digi-Key; Supplier Part Number 1: TPS60400DBVTG4-ND; Supplier 2: Newark; Supplier Part Number 2: 71J8174; Supplier 3: Mouser; Supplier Part Number 3: 595-TPS60400DBVTG4; Eco-Plan: Green (RoHS & no Sb/Br); Vout(Max)(V): -5.25; Mounting Technology: Surface Mount; Code_JEDEC: MO-178; ComponentLink1Description: Manufacturer URL; ComponentLink1URL: http://www.ti.com/; ComponentLink2Description: Datasheet; ComponentLink2URL: http://www.ti.com/general/docs/lit/getliterature.tsp?genericPartNumber=TPS60400&fileType=pdf; ComponentLink3Description: Package Specification; ComponentLink3URL: http://www.ti.com/litv/pdf/mpds018i
footprint TI-DBV5_N (SOT23, 5-Leads, Body 2.9x1.6mm, Pitch 0.95mm, IPC Medium Density)
footprint TI-DBV5_L (SOT23, 5-Leads, Body 2.9x1.6mm, Pitch 0.95mm, IPC High Density)
footprint TI-DBV5_M (SOT23, 5-Leads, Body 2.9x1.6mm, Pitch 0.95mm, IPC Low Density)
pins: 1 OUT (power) "Power output with VO = -VI Bypass OUT to GND with the output filter capacitor CO.", 2 IN (power) "Supply input. Connect to an input supply in the 1.6-V to 5.5-V range. Bypass IN to GND with a capacitor that has the same value as the flying capacitor.", 3 CFLY- "Negative terminal of the flying capacitor C(fly)", 4 GND (power) "Ground", 5 CFLY+ "Positive terminal of the flying capacitor C(fly)"

## TPS60400QDBVRQ1
designator U?
-1.8 to -5.25 V, Inverting Charge Pump Regulator, 60 mA, 1.8 to 5.25 V Input, -40 to 125 degC, 5-pin SOT23 (DBV5), Green (RoHS & no Sb/Br); Manufacturer: Texas Instruments; PartNumber: TPS60400QDBVRQ1; Efficiency(Typ)(%): >90; Iout(Max)(A): 0.06; Iq(Typ)(mA): 0.125; Switching Frequency(Max)(kHz): 375; Topology: Inverting Buck/Boost; Vin(Max)(V): 5.25; Vin(Min)(V): 1.8; DatasheetVersion: SGLS246A; PackageVersion: 4073253-4/K; PackageReference: DBV5; PackageDescription: 5-Pin Plastic Small Outline, Body 1.60 × 2.90 mm, Pitch 0.95 mm; Supplier 1: Digi-Key; Supplier Part Number 1: 296-24777-2-ND; Supplier 2: Digi-Key; Supplier Part Number 2: 296-24777-1-ND; Supplier 3: Digi-Key; Supplier Part Number 3: 296-24777-6-ND; Supplier 4: Newark; Supplier Part Number 4: 21J9227; Supplier 5: Mouser; Supplier Part Number 5: 595-TPS60400QDBVRQ1; Eco-Plan: Green (RoHS & no Sb/Br); Vout(Max)(V): -5.25; Vout(Min)(V): -1.8; Mounting Technology: Surface Mount; Code_JEDEC: MO-178; ComponentLink1Description: Manufacturer URL; ComponentLink1URL: http://www.ti.com/; ComponentLink2Description: Datasheet; ComponentLink2URL: http://www.ti.com/general/docs/lit/getliterature.tsp?genericPartNumber=TPS60400-Q1&fileType=pdf; ComponentLink3Description: Package Specification; ComponentLink3URL: http://www.ti.com/litv/pdf/mpds018i
footprint TI-DBV5_N (SOT23, 5-Leads, Body 2.9x1.6mm, Pitch 0.95mm, IPC Medium Density)
footprint TI-DBV5_L (SOT23, 5-Leads, Body 2.9x1.6mm, Pitch 0.95mm, IPC High Density)
footprint TI-DBV5_M (SOT23, 5-Leads, Body 2.9x1.6mm, Pitch 0.95mm, IPC Low Density)
pins: 1 OUT (power) "Power output with VO = -VI Bypass OUT to GND with the output filter capacitor CO.", 2 IN (power) "Supply input. Connect to an input supply in the 1.6-V to 5.5-V range. Bypass IN to GND with a capacitor that has the same value as the flying capacitor.", 3 CFLY- "Negative terminal of the flying capacitor C(fly)", 4 GND (power) "Ground", 5 CFLY+ "Positive terminal of the flying capacitor C(fly)"

## TPS60401DBVR
designator U?
-1.8 to -5.25 V, Inverting Charge Pump, 60 mA, 1.8 to 5.25 V Input with 2-Cell Alkaline / Nixx Input, -40 to 85 degC, 5-pin SOT23 (DBV5), Green (RoHS & no Sb/Br); Manufacturer: Texas Instruments; PartNumber: TPS60401DBVR; 2-Cell Alkaline/Nixx Input: TRUE; Efficiency(Typ)(%): 99; Iout(Max)(A): 0.06; Iq(Typ)(mA): 0.065; Switching Frequency(Max)(kHz): 25; Topology: Inverting Buck/Boost; Vin(Max)(V): 5.25; Vin(Min)(V): 1.8; Vout(Min)(V): -1.6; DatasheetVersion: SLVS324A; PackageVersion: 4073253-4/K; PackageReference: DBV5; PackageDescription: 5-Pin Plastic Small Outline, Body 1.60 × 2.90 mm, Pitch 0.95 mm; Supplier 1: Digi-Key; Supplier Part Number 1: TPS60401DBVR-ND; Supplier 2: Newark; Supplier Part Number 2: 77C0627; Supplier 3: Mouser; Supplier Part Number 3: 595-TPS60401DBVR; Eco-Plan: Green (RoHS & no Sb/Br); Vout(Max)(V): -5.25; Mounting Technology: Surface Mount; Code_JEDEC: MO-178; ComponentLink1Description: Manufacturer URL; ComponentLink1URL: http://www.ti.com/; ComponentLink2Description: Datasheet; ComponentLink2URL: http://www.ti.com/general/docs/lit/getliterature.tsp?genericPartNumber=TPS60401&fileType=pdf; ComponentLink3Description: Package Specification; ComponentLink3URL: http://www.ti.com/litv/pdf/mpds018i
footprint TI-DBV5_N (SOT23, 5-Leads, Body 2.9x1.6mm, Pitch 0.95mm, IPC Medium Density)
footprint TI-DBV5_L (SOT23, 5-Leads, Body 2.9x1.6mm, Pitch 0.95mm, IPC High Density)
footprint TI-DBV5_M (SOT23, 5-Leads, Body 2.9x1.6mm, Pitch 0.95mm, IPC Low Density)
pins: 1 OUT (power) "Power output with VO = -VI Bypass OUT to GND with the output filter capacitor CO.", 2 IN (power) "Supply input. Connect to an input supply in the 1.6-V to 5.5-V range. Bypass IN to GND with a capacitor that has the same value as the flying capacitor.", 3 CFLY- "Negative terminal of the flying capacitor C(fly)", 4 GND (power) "Ground", 5 CFLY+ "Positive terminal of the flying capacitor C(fly)"

## TPS60401DBVRG4
designator U?
-1.8 to -5.25 V, Inverting Charge Pump, 60 mA, 1.8 to 5.25 V Input with 2-Cell Alkaline / Nixx Input, -40 to 85 degC, 5-pin SOT23 (DBV5), Green (RoHS & no Sb/Br); Manufacturer: Texas Instruments; PartNumber: TPS60401DBVRG4; 2-Cell Alkaline/Nixx Input: TRUE; Efficiency(Typ)(%): 99; Iout(Max)(A): 0.06; Iq(Typ)(mA): 0.065; Switching Frequency(Max)(kHz): 25; Topology: Inverting Buck/Boost; Vin(Max)(V): 5.25; Vin(Min)(V): 1.8; Vout(Min)(V): -1.6; DatasheetVersion: SLVS324A; PackageVersion: 4073253-4/K; PackageReference: DBV5; PackageDescription: 5-Pin Plastic Small Outline, Body 1.60 × 2.90 mm, Pitch 0.95 mm; Supplier 1: Digi-Key; Supplier Part Number 1: TPS60401DBVRG4-ND; Supplier 2: Newark; Supplier Part Number 2: 24K6004; Supplier 3: Mouser; Supplier Part Number 3: 595-TPS60401DBVRG4; Eco-Plan: Green (RoHS & no Sb/Br); Vout(Max)(V): -5.25; Mounting Technology: Surface Mount; Code_JEDEC: MO-178; ComponentLink1Description: Manufacturer URL; ComponentLink1URL: http://www.ti.com/; ComponentLink2Description: Datasheet; ComponentLink2URL: http://www.ti.com/general/docs/lit/getliterature.tsp?genericPartNumber=TPS60401&fileType=pdf; ComponentLink3Description: Package Specification; ComponentLink3URL: http://www.ti.com/litv/pdf/mpds018i
footprint TI-DBV5_N (SOT23, 5-Leads, Body 2.9x1.6mm, Pitch 0.95mm, IPC Medium Density)
footprint TI-DBV5_L (SOT23, 5-Leads, Body 2.9x1.6mm, Pitch 0.95mm, IPC High Density)
footprint TI-DBV5_M (SOT23, 5-Leads, Body 2.9x1.6mm, Pitch 0.95mm, IPC Low Density)
pins: 1 OUT (power) "Power output with VO = -VI Bypass OUT to GND with the output filter capacitor CO.", 2 IN (power) "Supply input. Connect to an input supply in the 1.6-V to 5.5-V range. Bypass IN to GND with a capacitor that has the same value as the flying capacitor.", 3 CFLY- "Negative terminal of the flying capacitor C(fly)", 4 GND (power) "Ground", 5 CFLY+ "Positive terminal of the flying capacitor C(fly)"

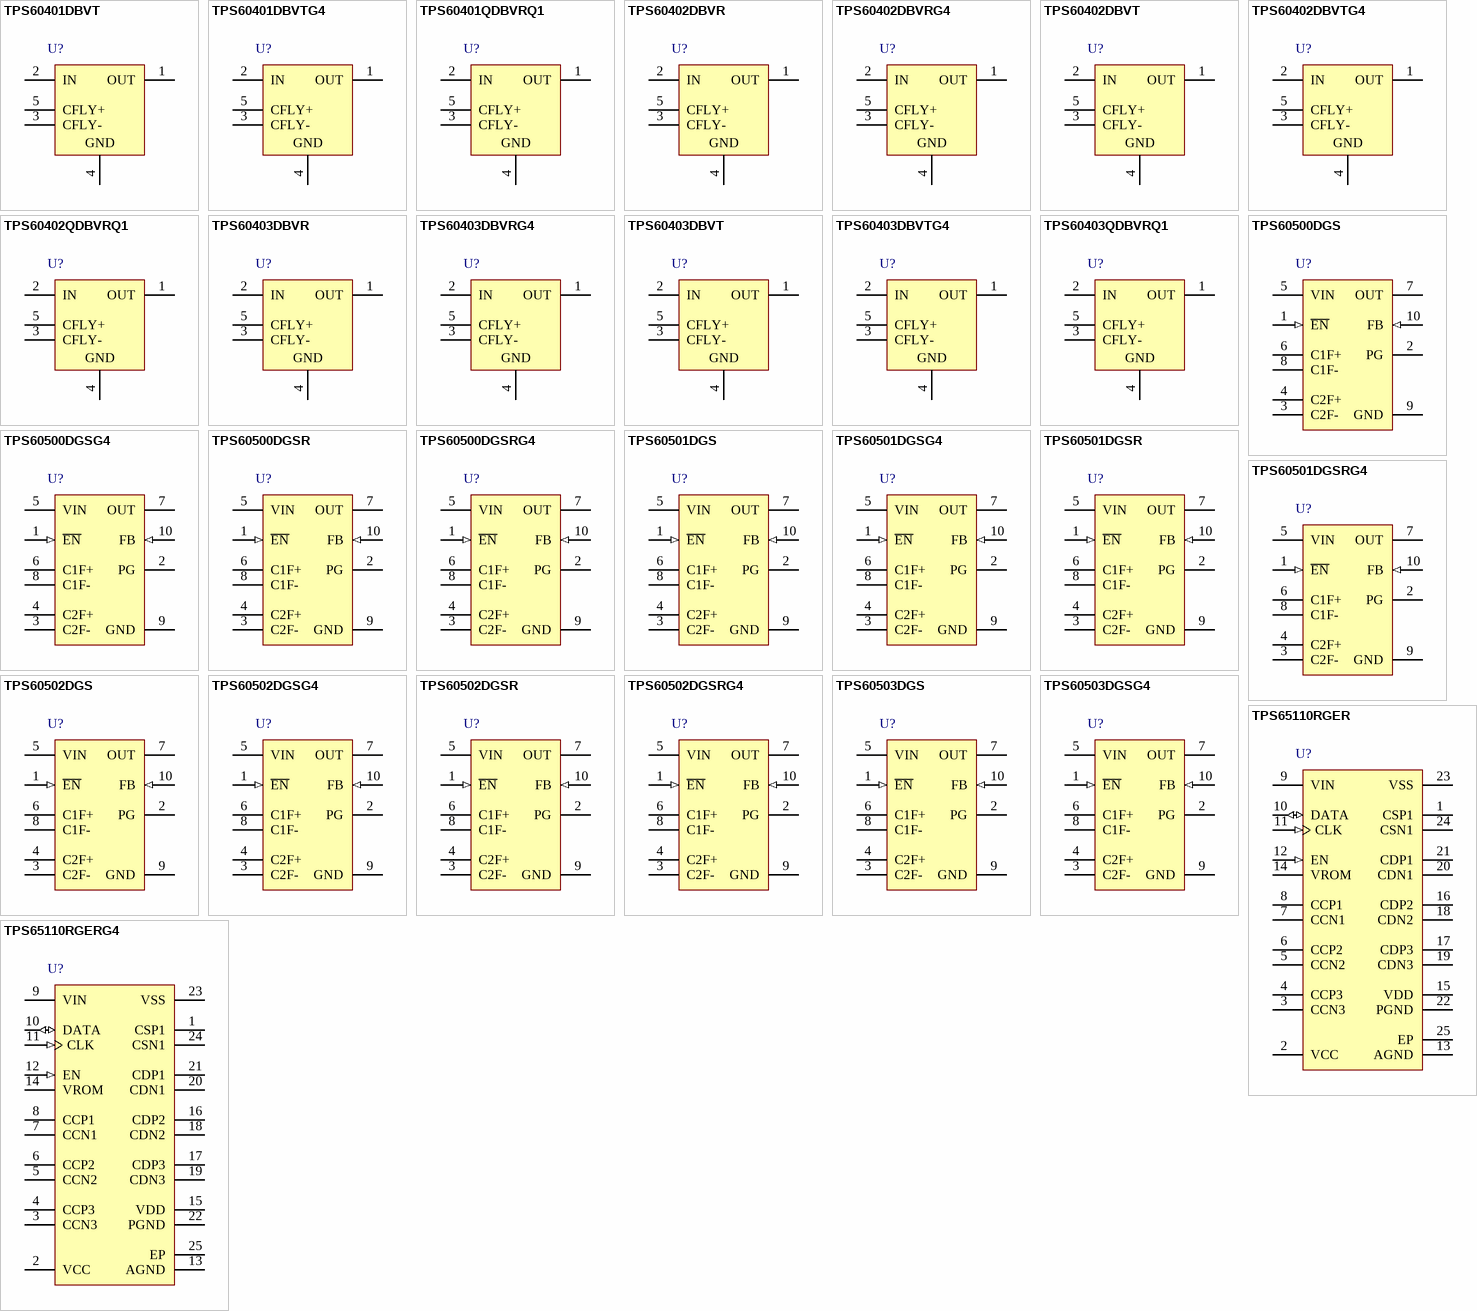
[diagram p7: symbols TPS60401DBVT to TPS65110RGERG4]

## TPS60401DBVT
designator U?
-1.8 to -5.25 V, Inverting Charge Pump, 60 mA, 1.8 to 5.25 V Input with 2-Cell Alkaline / Nixx Input, -40 to 85 degC, 5-pin SOT23 (DBV5), Green (RoHS & no Sb/Br); Manufacturer: Texas Instruments; PartNumber: TPS60401DBVT; 2-Cell Alkaline/Nixx Input: TRUE; Efficiency(Typ)(%): 99; Iout(Max)(A): 0.06; Iq(Typ)(mA): 0.065; Switching Frequency(Max)(kHz): 25; Topology: Inverting Buck/Boost; Vin(Max)(V): 5.25; Vin(Min)(V): 1.8; Vout(Min)(V): -1.6; DatasheetVersion: SLVS324A; PackageVersion: 4073253-4/K; PackageReference: DBV5; PackageDescription: 5-Pin Plastic Small Outline, Body 1.60 × 2.90 mm, Pitch 0.95 mm; Supplier 1: Digi-Key; Supplier Part Number 1: 296-12014-2-ND; Supplier 2: Digi-Key; Supplier Part Number 2: 296-12014-1-ND; Supplier 3: Digi-Key; Supplier Part Number 3: 296-12014-6-ND; Supplier 4: Farnell; Supplier Part Number 4: 8457760; Supplier 5: Farnell; Supplier Part Number 5: 8457760RL; Supplier 6: Newark; Supplier Part Number 6: 38K8734; Supplier 7: Newark; Supplier Part Number 7: 77C0628; Supplier 8: Mouser; Supplier Part Number 8: 595-TPS60401DBVT; Eco-Plan: Green (RoHS & no Sb/Br); Vout(Max)(V): -5.25; Mounting Technology: Surface Mount; Code_JEDEC: MO-178; ComponentLink1Description: Manufacturer URL; ComponentLink1URL: http://www.ti.com/; ComponentLink2Description: Datasheet; ComponentLink2URL: http://www.ti.com/general/docs/lit/getliterature.tsp?genericPartNumber=TPS60401&fileType=pdf; ComponentLink3Description: Package Specification; ComponentLink3URL: http://www.ti.com/litv/pdf/mpds018i
footprint TI-DBV5_N (SOT23, 5-Leads, Body 2.9x1.6mm, Pitch 0.95mm, IPC Medium Density)
footprint TI-DBV5_L (SOT23, 5-Leads, Body 2.9x1.6mm, Pitch 0.95mm, IPC High Density)
footprint TI-DBV5_M (SOT23, 5-Leads, Body 2.9x1.6mm, Pitch 0.95mm, IPC Low Density)
pins: 1 OUT (power) "Power output with VO = -VI Bypass OUT to GND with the output filter capacitor CO.", 2 IN (power) "Supply input. Connect to an input supply in the 1.6-V to 5.5-V range. Bypass IN to GND with a capacitor that has the same value as the flying capacitor.", 3 CFLY- "Negative terminal of the flying capacitor C(fly)", 4 GND (power) "Ground", 5 CFLY+ "Positive terminal of the flying capacitor C(fly)"

## TPS60401DBVTG4
designator U?
-1.8 to -5.25 V, Inverting Charge Pump, 60 mA, 1.8 to 5.25 V Input with 2-Cell Alkaline / Nixx Input, -40 to 85 degC, 5-pin SOT23 (DBV5), Green (RoHS & no Sb/Br); Manufacturer: Texas Instruments; PartNumber: TPS60401DBVTG4; 2-Cell Alkaline/Nixx Input: TRUE; Efficiency(Typ)(%): 99; Iout(Max)(A): 0.06; Iq(Typ)(mA): 0.065; Switching Frequency(Max)(kHz): 25; Topology: Inverting Buck/Boost; Vin(Max)(V): 5.25; Vin(Min)(V): 1.8; Vout(Min)(V): -1.6; DatasheetVersion: SLVS324A; PackageVersion: 4073253-4/K; PackageReference: DBV5; PackageDescription: 5-Pin Plastic Small Outline, Body 1.60 × 2.90 mm, Pitch 0.95 mm; Supplier 1: Digi-Key; Supplier Part Number 1: TPS60401DBVTG4-ND; Supplier 2: Newark; Supplier Part Number 2: 24K6005; Supplier 3: Mouser; Supplier Part Number 3: 595-TPS60401DBVTG4; Eco-Plan: Green (RoHS & no Sb/Br); Vout(Max)(V): -5.25; Mounting Technology: Surface Mount; Code_JEDEC: MO-178; ComponentLink1Description: Manufacturer URL; ComponentLink1URL: http://www.ti.com/; ComponentLink2Description: Datasheet; ComponentLink2URL: http://www.ti.com/general/docs/lit/getliterature.tsp?genericPartNumber=TPS60401&fileType=pdf; ComponentLink3Description: Package Specification; ComponentLink3URL: http://www.ti.com/litv/pdf/mpds018i
footprint TI-DBV5_N (SOT23, 5-Leads, Body 2.9x1.6mm, Pitch 0.95mm, IPC Medium Density)
footprint TI-DBV5_L (SOT23, 5-Leads, Body 2.9x1.6mm, Pitch 0.95mm, IPC High Density)
footprint TI-DBV5_M (SOT23, 5-Leads, Body 2.9x1.6mm, Pitch 0.95mm, IPC Low Density)
pins: 1 OUT (power) "Power output with VO = -VI Bypass OUT to GND with the output filter capacitor CO.", 2 IN (power) "Supply input. Connect to an input supply in the 1.6-V to 5.5-V range. Bypass IN to GND with a capacitor that has the same value as the flying capacitor.", 3 CFLY- "Negative terminal of the flying capacitor C(fly)", 4 GND (power) "Ground", 5 CFLY+ "Positive terminal of the flying capacitor C(fly)"

## TPS60401QDBVRQ1
designator U?
-1.8 to -5.25 V, Inverting Charge Pump Regulator, 60 mA, 1.8 to 5.25 V Input, -40 to 125 degC, 5-pin SOT23 (DBV5), Green (RoHS & no Sb/Br); Manufacturer: Texas Instruments; PartNumber: TPS60401QDBVRQ1; Efficiency(Typ)(%): >90; Iout(Max)(A): 0.06; Iq(Typ)(mA): 0.065; Switching Frequency(Max)(kHz): 30; Topology: Inverting Buck/Boost; Vin(Max)(V): 5.25; Vin(Min)(V): 1.8; DatasheetVersion: SGLS246A; PackageVersion: 4073253-4/K; PackageReference: DBV5; PackageDescription: 5-Pin Plastic Small Outline, Body 1.60 × 2.90 mm, Pitch 0.95 mm; Supplier 1: Digi-Key; Supplier Part Number 1: 296-29781-2-ND; Supplier 2: Digi-Key; Supplier Part Number 2: 296-29781-1-ND; Supplier 3: Digi-Key; Supplier Part Number 3: 296-29781-6-ND; Supplier 4: Mouser; Supplier Part Number 4: 595-TPS60401QDBVRQ1; Eco-Plan: Green (RoHS & no Sb/Br); Vout(Max)(V): -5.25; Vout(Min)(V): -1.8; Mounting Technology: Surface Mount; Code_JEDEC: MO-178; ComponentLink1Description: Manufacturer URL; ComponentLink1URL: http://www.ti.com/; ComponentLink2Description: Datasheet; ComponentLink2URL: http://www.ti.com/general/docs/lit/getliterature.tsp?genericPartNumber=TPS60401-Q1&fileType=pdf; ComponentLink3Description: Package Specification; ComponentLink3URL: http://www.ti.com/litv/pdf/mpds018i
footprint TI-DBV5_N (SOT23, 5-Leads, Body 2.9x1.6mm, Pitch 0.95mm, IPC Medium Density)
footprint TI-DBV5_L (SOT23, 5-Leads, Body 2.9x1.6mm, Pitch 0.95mm, IPC High Density)
footprint TI-DBV5_M (SOT23, 5-Leads, Body 2.9x1.6mm, Pitch 0.95mm, IPC Low Density)
pins: 1 OUT (power) "Power output with VO = -VI Bypass OUT to GND with the output filter capacitor CO", 2 IN (power) "Supply input. Connect to an input supply in the 1.6-V to 5.5-V range. Bypass IN to GND with a capacitor that has the same value as the flying capacitor", 3 CFLY- "Negative terminal of the flying capacitor C(fly)", 4 GND (power) "Ground", 5 CFLY+ "Positive terminal of the flying capacitor C(fly)"

## TPS60402DBVR
designator U?
-1.8 to -5.25 V, Inverting Charge Pump Regulator, 60 mA, 1.8 to 5.25 V Input with 2-Cell Alkaline / Nixx Input, -40 to 85 degC, 5-pin SOT23 (DBV5), Green (RoHS & no Sb/Br); Manufacturer: Texas Instruments; PartNumber: TPS60402DBVR; 2-Cell Alkaline/Nixx Input: TRUE; Efficiency(Typ)(%): 99; Iout(Max)(A): 0.06; Iq(Typ)(mA): 0.12; Switching Frequency(Max)(kHz): 70; Topology: Inverting Buck/Boost; Vin(Max)(V): 5.25; Vin(Min)(V): 1.8; DatasheetVersion: SLVS324A; PackageVersion: 4073253-4/K; PackageReference: DBV5; PackageDescription: 5-Pin Plastic Small Outline, Body 1.60 × 2.90 mm, Pitch 0.95 mm; Supplier 1: Digi-Key; Supplier Part Number 1: 296-31988-2-ND; Supplier 2: Digi-Key; Supplier Part Number 2: 296-31988-1-ND; Supplier 3: Digi-Key; Supplier Part Number 3: 296-31988-6-ND; Supplier 4: Newark; Supplier Part Number 4: 77C0629; Supplier 5: Mouser; Supplier Part Number 5: 595-TPS60402DBVR; Eco-Plan: Green (RoHS & no Sb/Br); Vout(Max)(V): -5.25; Vout(Min)(V): -1.8; Mounting Technology: Surface Mount; Code_JEDEC: MO-178; ComponentLink1Description: Manufacturer URL; ComponentLink1URL: http://www.ti.com/; ComponentLink2Description: Datasheet; ComponentLink2URL: http://www.ti.com/general/docs/lit/getliterature.tsp?genericPartNumber=TPS60402&fileType=pdf; ComponentLink3Description: Package Specification; ComponentLink3URL: http://www.ti.com/litv/pdf/mpds018i
footprint TI-DBV5_N (SOT23, 5-Leads, Body 2.9x1.6mm, Pitch 0.95mm, IPC Medium Density)
footprint TI-DBV5_L (SOT23, 5-Leads, Body 2.9x1.6mm, Pitch 0.95mm, IPC High Density)
footprint TI-DBV5_M (SOT23, 5-Leads, Body 2.9x1.6mm, Pitch 0.95mm, IPC Low Density)
pins: 1 OUT (power) "Power output with VO = -VI Bypass OUT to GND with the output filter capacitor CO", 2 IN (power) "Supply input. Connect to an input supply in the 1.6-V to 5.5-V range. Bypass IN to GND with a capacitor that has the same value as the flying capacitor", 3 CFLY- "Negative terminal of the flying capacitor C(fly)", 4 GND (power) "Ground", 5 CFLY+ "Positive terminal of the flying capacitor C(fly)"

## TPS60402DBVRG4
designator U?
-1.8 to -5.25 V, Inverting Charge Pump Regulator, 60 mA, 1.8 to 5.25 V Input with 2-Cell Alkaline / Nixx Input, -40 to 85 degC, 5-pin SOT23 (DBV5), Green (RoHS & no Sb/Br); Manufacturer: Texas Instruments; PartNumber: TPS60402DBVRG4; 2-Cell Alkaline/Nixx Input: TRUE; Efficiency(Typ)(%): 99; Iout(Max)(A): 0.06; Iq(Typ)(mA): 0.12; Switching Frequency(Max)(kHz): 70; Topology: Inverting Buck/Boost; Vin(Max)(V): 5.25; Vin(Min)(V): 1.8; DatasheetVersion: SLVS324A; PackageVersion: 4073253-4/K; PackageReference: DBV5; PackageDescription: 5-Pin Plastic Small Outline, Body 1.60 × 2.90 mm, Pitch 0.95 mm; Supplier 1: Digi-Key; Supplier Part Number 1: TPS60402DBVRG4-ND; Supplier 2: Mouser; Supplier Part Number 2: 595-TPS60402DBVRG4; Eco-Plan: Green (RoHS & no Sb/Br); Vout(Max)(V): -5.25; Vout(Min)(V): -1.8; Mounting Technology: Surface Mount; Code_JEDEC: MO-178; ComponentLink1Description: Manufacturer URL; ComponentLink1URL: http://www.ti.com/; ComponentLink2Description: Datasheet; ComponentLink2URL: http://www.ti.com/general/docs/lit/getliterature.tsp?genericPartNumber=TPS60402&fileType=pdf; ComponentLink3Description: Package Specification; ComponentLink3URL: http://www.ti.com/litv/pdf/mpds018i
footprint TI-DBV5_N (SOT23, 5-Leads, Body 2.9x1.6mm, Pitch 0.95mm, IPC Medium Density)
footprint TI-DBV5_L (SOT23, 5-Leads, Body 2.9x1.6mm, Pitch 0.95mm, IPC High Density)
footprint TI-DBV5_M (SOT23, 5-Leads, Body 2.9x1.6mm, Pitch 0.95mm, IPC Low Density)
pins: 1 OUT (power) "Power output with VO = -VI Bypass OUT to GND with the output filter capacitor CO", 2 IN (power) "Supply input. Connect to an input supply in the 1.6-V to 5.5-V range. Bypass IN to GND with a capacitor that has the same value as the flying capacitor", 3 CFLY- "Negative terminal of the flying capacitor C(fly)", 4 GND (power) "Ground", 5 CFLY+ "Positive terminal of the flying capacitor C(fly)"